# Altium footprint library CL21A226MQQNNNE.PcbLib: 3 footprints
Each footprint in its own frame and in the unit in brackets; x right, y up, seen from the top. Pads: shape width x height; smd on the part's side, far side on the other; paste and mask are expansions set on the pad; w line width, h text height; cw(c..) or ccw(c..) is an arc to the next point about the centre after c.
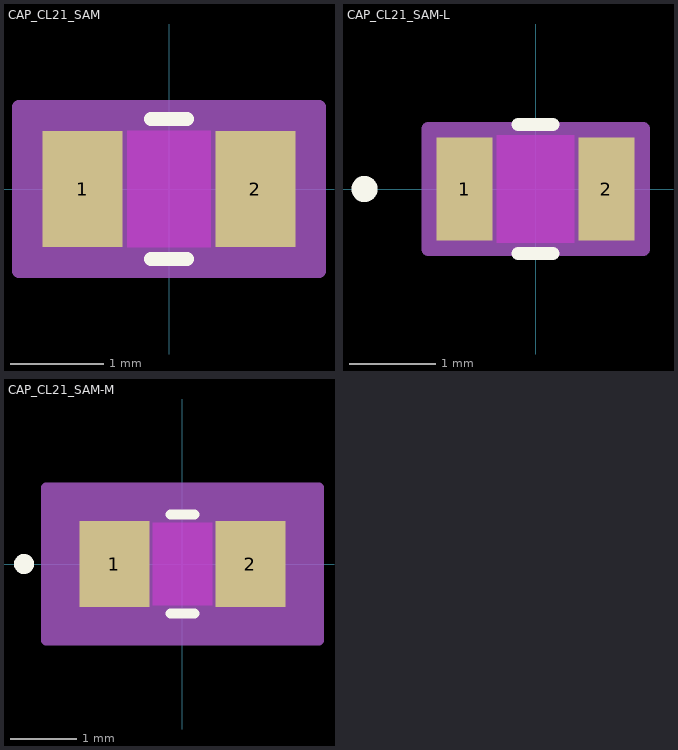
[diagram p0: the footprints below, top view; thin cyan lines are the x and y axes]

## CAP_CL21_SAM [mm]
pads (2):
  rect 0.856x1.25 smd paste+0 mask+0: 1(-0.928,0) 2(0.928,0)
Top Layer keep-out:
  region: -0.449,-0.574 -0.449,0.574 0.449,0.574 0.449,-0.574
Top Overlay:
  lines w0.152: -0.192,-0.752 0.192,-0.752 ; -0.192,0.752 0.192,0.752
Keep-Out Layer:
  region: -0.449,-0.625 -0.449,0.625 0.449,0.625 0.449,-0.625
Mechanical 13:
  circle w0: c-0.801,0 r0
  lines w0.025: -1,-0.625 -1,0.625 ; -1,-0.625 -0.5,-0.625 -0.5,0.625 -1,0.625 ; -1,-0.625 1,-0.625 ; -1,-0.625 -1,0.625 ; -1,0.625 1,0.625 ; 1,-0.625 0.5,-0.625 0.5,0.625 1,0.625 ; 1,-0.625 1,0.625 ; 1,-0.625 1,0.625
Mechanical 15:
  region: 1.61,-0.879 -1.61,-0.879 -1.61,0.879 1.61,0.879
  lines w0.152: -1.61,-0.879 -1.61,0.879 1.61,0.879 1.61,-0.879 -1.61,-0.879
3D body "CAP_CL21_SAM.step": height 1.35, standoff 0, extent -1,-0.625 1,0.625

## CAP_CL21_SAM-L [mm]
pads (2):
  rect 0.652x1.199 smd paste+0 mask+0: 1(-0.826,0) 2(0.826,0)
Top Layer keep-out:
  region: -0.449,-0.574 -0.449,0.574 0.449,0.574 0.449,-0.574
Top Overlay:
  circle w0.152: c-1.991,0 r0.076
  lines w0.152: -0.204,-0.752 0.204,-0.752 ; -0.204,0.752 0.204,0.752
Keep-Out Layer:
  region: -0.449,-0.625 -0.449,0.625 0.449,0.625 0.449,-0.625
Mechanical 13:
  circle w0: c-0.699,0 r0.076
  lines w0.025: -1,-0.625 -1,0.625 ; -1,-0.625 -0.5,-0.625 -0.5,0.625 -1,0.625 ; -1,-0.625 1,-0.625 ; -1,-0.625 -1,0.625 ; -1,0.625 1,0.625 ; 1,-0.625 0.5,-0.625 0.5,0.625 1,0.625 ; 1,-0.625 1,0.625 ; 1,-0.625 1,0.625
Mechanical 15:
  region: 1.254,-0.701 -1.254,-0.701 -1.254,0.701 1.254,0.701
  lines w0.152: -1.254,-0.701 -1.254,0.701 1.254,0.701 1.254,-0.701 -1.254,-0.701
3D body "CAP_CL21_SAM.step": height 1.35, standoff 0, extent -1,-0.625 1,0.625

## CAP_CL21_SAM-M [mm]
pads (2):
  rect 1.059x1.301 smd paste+0 mask+0: 1(-1.029,0) 2(1.029,0)
Top Layer keep-out:
  region: -0.449,-0.574 -0.449,0.574 0.449,0.574 0.449,-0.574
Top Overlay:
  circle w0.152: c-2.397,0 r0.076
  lines w0.152: -0.183,-0.752 0.183,-0.752 ; -0.183,0.752 0.183,0.752
Keep-Out Layer:
  region: -0.449,-0.625 -0.449,0.625 0.449,0.625 0.449,-0.625
Mechanical 13:
  circle w0: c-0.902,0 r0.076
  lines w0.025: -1,-0.625 -1,0.625 ; -1,-0.625 -0.5,-0.625 -0.5,0.625 -1,0.625 ; -1,-0.625 1,-0.625 ; -1,-0.625 -1,0.625 ; -1,0.625 1,0.625 ; 1,-0.625 0.5,-0.625 0.5,0.625 1,0.625 ; 1,-0.625 1,0.625 ; 1,-0.625 1,0.625
Mechanical 15:
  region: 2.067,-1.158 -2.067,-1.158 -2.067,1.158 2.067,1.158
  lines w0.152: -2.067,-1.158 -2.067,1.158 2.067,1.158 2.067,-1.158 -2.067,-1.158
3D body "CAP_CL21_SAM.step": height 1.35, standoff 0, extent -1,-0.625 1,0.625